# Altium footprint library WCAP-FTXX.PcbLib: 72 footprints (part 4 of 5)
Each footprint in its own frame and in the unit in brackets; x right, y up, seen from the top. Pads: shape width x height; smd on the part's side, far side on the other; paste and mask are expansions set on the pad; w line width, h text height; cw(c..) or ccw(c..) is an arc to the next point about the centre after c.
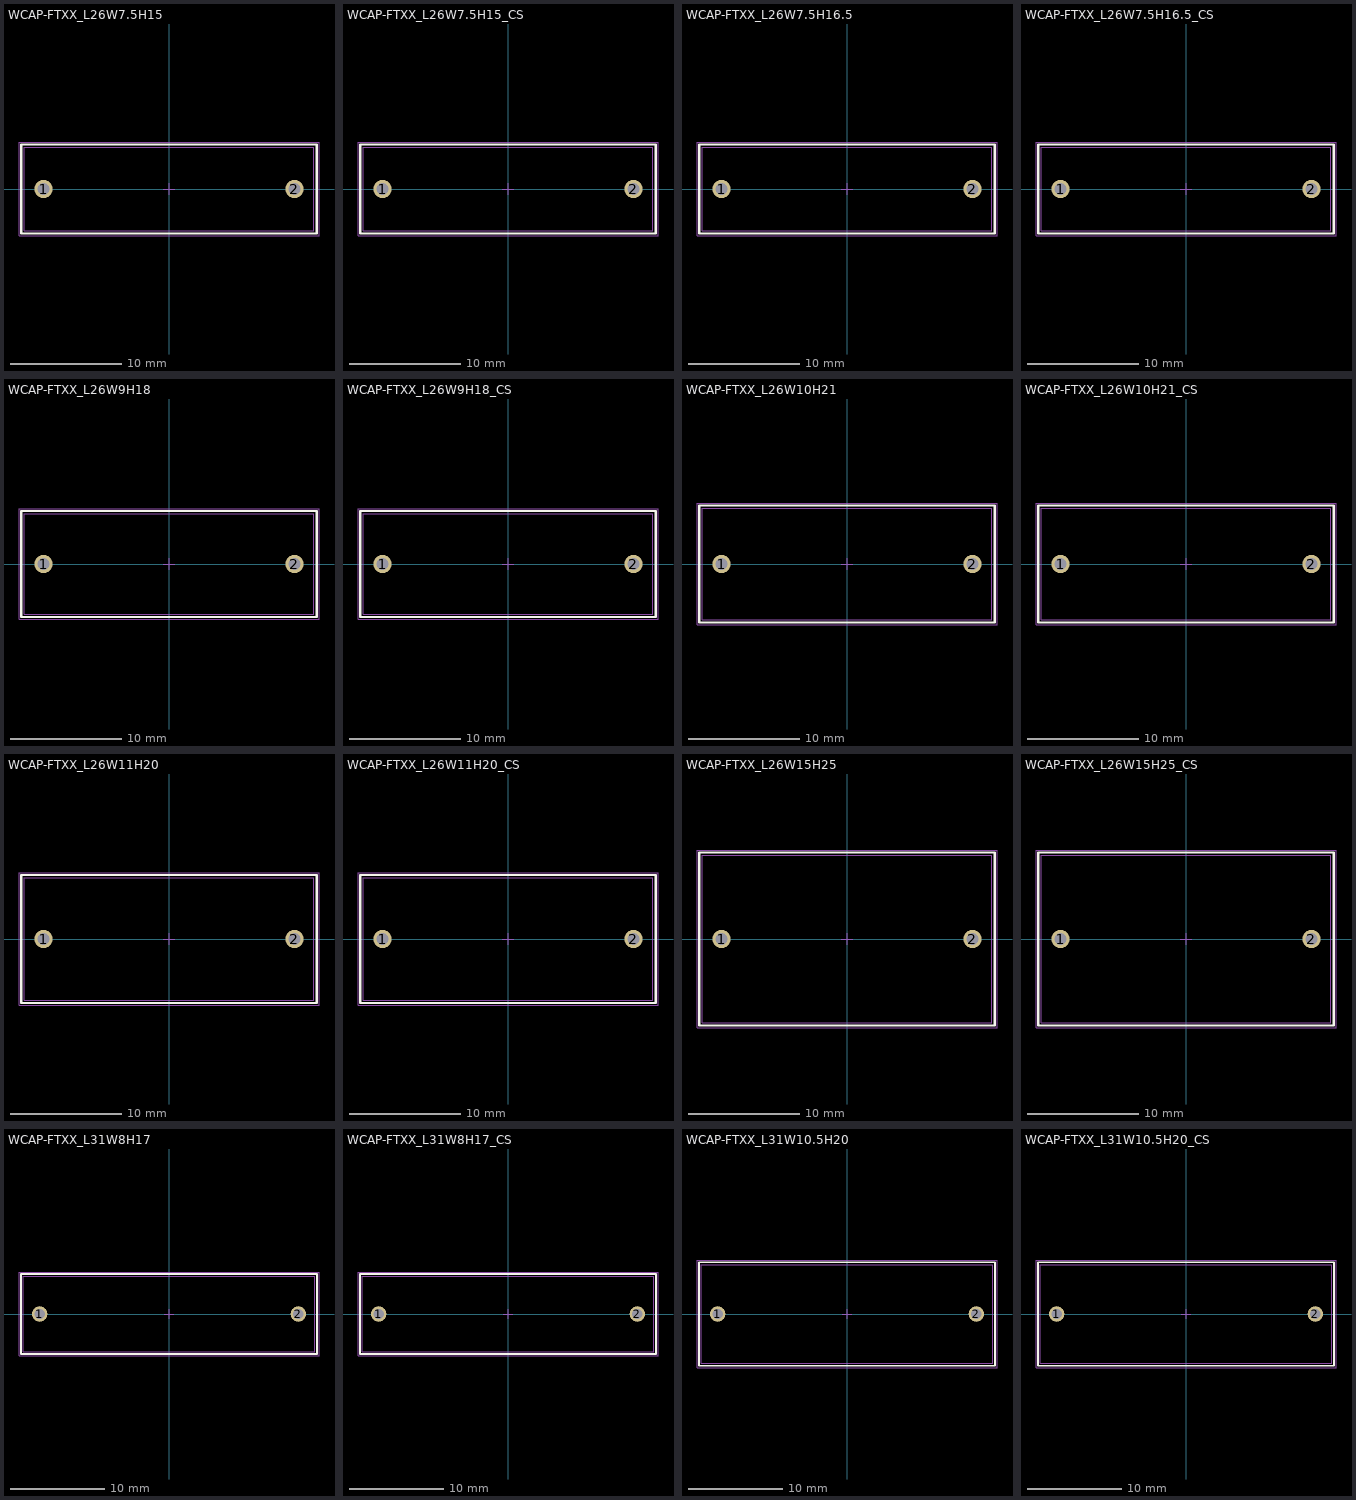
[diagram p3: the footprints below, top view; thin cyan lines are the x and y axes]

## WCAP-FTXX_L26W7.5H15 [mm] "Film Capacitors, 26x7.5x15mm"
height 15
pads (2):
  round 1.65 hole 1.1: 1(-11.25,0) 2(11.25,0)
Top Overlay:
  lines w0.2: -13.25,-4 13.25,-4 13.25,4 -13.25,4 -13.25,-4
Top Designator:
  text ".Designator" at -7.498,-0.5 h1.5
Top Component Outline:
  lines w0.1: -13,-3.75 -13,3.75 13,3.75 13,-3.75 -13,-3.75
Top Courtyard:
  lines w0.05: -13.45,-4.2 13.45,-4.2 13.45,4.2 -13.45,4.2 -13.45,-4.2
Top Component Center:
  lines w0.05: -0.5,0 0.5,0 ; 0,-0.5 0,0.5
3D body "22,5x26x15x7,5.stp": height 15.05, standoff -19.95, extent -13,-3.75 13,3.75

## WCAP-FTXX_L26W7.5H15_CS [mm] "Film Capacitors, 26x7.5x15mm"
height 15
pads (2):
  round 1.65 hole 1.1: 1(-11.25,0) 2(11.25,0)
Top Overlay:
  lines w0.2: -13.25,-4 -13.25,4 13.25,4 13.25,-4 -13.25,-4
Top Designator:
  text ".Designator" at -7.498,-0.5 h1.5
Top Component Outline:
  lines w0.1: -13,-3.75 13,-3.75 13,3.75 -13,3.75 -13,-3.75
Top Courtyard:
  lines w0.05: -13.45,-4.2 -13.45,4.2 13.45,4.2 13.45,-4.2 -13.45,-4.2
Top Component Center:
  lines w0.05: -0.5,0 0.5,0 ; 0,-0.5 0,0.5
3D body "22,5x26x15x7,5_CS.stp": height 15.05, standoff -3.95, extent -13,-3.75 13,3.75

## WCAP-FTXX_L26W7.5H16.5 [mm] "Film Capacitors, 26x7.5x16.5mm"
height 16.5
pads (2):
  round 1.65 hole 1.1: 1(-11.25,0) 2(11.25,0)
Top Overlay:
  lines w0.2: -13.25,-4 -13.25,4 13.25,4 13.25,-4 -13.25,-4
Top Designator:
  text ".Designator" at -7.498,-0.5 h1.5
Top Component Outline:
  lines w0.1: -13,-3.75 13,-3.75 13,3.75 -13,3.75 -13,-3.75
Top Courtyard:
  lines w0.05: -13.45,-4.2 -13.45,4.2 13.45,4.2 13.45,-4.2 -13.45,-4.2
Top Component Center:
  lines w0.05: -0.5,0 0.5,0 ; 0,-0.5 0,0.5
3D body "22,5x26x16,5x7,5.stp": height 16.55, standoff -19.95, extent -13,-3.75 13,3.75

## WCAP-FTXX_L26W7.5H16.5_CS [mm] "Film Capacitors, 26x7.5x16.5mm"
height 16.5
pads (2):
  round 1.65 hole 1.1: 1(-11.25,0) 2(11.25,0)
Top Overlay:
  lines w0.2: -13.25,-4 -13.25,4 13.25,4 13.25,-4 -13.25,-4
Top Designator:
  text ".Designator" at -7.498,-0.5 h1.5
Top Component Outline:
  lines w0.1: -13,-3.75 13,-3.75 13,3.75 -13,3.75 -13,-3.75
Top Courtyard:
  lines w0.05: -13.45,-4.2 -13.45,4.2 13.45,4.2 13.45,-4.2 -13.45,-4.2
Top Component Center:
  lines w0.05: -0.5,0 0.5,0 ; 0,-0.5 0,0.5
3D body "22,5x26x16,5x7,5_CS.stp": height 16.55, standoff -3.95, extent -13,-3.75 13,3.75

## WCAP-FTXX_L26W9H18 [mm] "Film Capacitors, 26x9x18mm"
height 18
pads (2):
  round 1.65 hole 1.1: 1(-11.25,0) 2(11.25,0)
Top Overlay:
  lines w0.2: -13.25,-4.75 -13.25,4.75 13.25,4.75 13.25,-4.75 -13.25,-4.75
Top Designator:
  text ".Designator" at -7.498,-0.5 h1.5
Top Component Outline:
  lines w0.1: -13,-4.5 13,-4.5 13,4.5 -13,4.5 -13,-4.5
Top Courtyard:
  lines w0.05: -13.45,-4.95 -13.45,4.95 13.45,4.95 13.45,-4.95 -13.45,-4.95
Top Component Center:
  lines w0.05: -0.5,0 0.5,0 ; 0,-0.5 0,0.5
3D body "22,5x26x18x9.stp": height 18.05, standoff -19.95, extent -13,-4.5 13,4.5

## WCAP-FTXX_L26W9H18_CS [mm] "Film Capacitors, 26x9x18mm"
height 18
pads (2):
  round 1.65 hole 1.1: 1(-11.25,0) 2(11.25,0)
Top Overlay:
  lines w0.2: -13.25,-4.75 13.25,-4.75 13.25,4.75 -13.25,4.75 -13.25,-4.75
Top Designator:
  text ".Designator" at -7.498,-0.5 h1.5
Top Component Outline:
  lines w0.1: -13,-4.5 -13,4.5 13,4.5 13,-4.5 -13,-4.5
Top Courtyard:
  lines w0.05: -13.45,-4.95 13.45,-4.95 13.45,4.95 -13.45,4.95 -13.45,-4.95
Top Component Center:
  lines w0.05: -0.5,0 0.5,0 ; 0,-0.5 0,0.5
3D body "22,5x26x18x9_CS.stp": height 18.05, standoff -3.95, extent -13,-4.5 13,4.5

## WCAP-FTXX_L26W10H21 [mm] "Film Capacitors, 26x10x21mm"
height 21
pads (2):
  round 1.65 hole 1.1: 1(-11.25,0) 2(11.25,0)
Top Overlay:
  lines w0.2: -13.25,-5.25 13.25,-5.25 13.25,5.25 -13.25,5.25 -13.25,-5.25
Top Designator:
  text ".Designator" at -7.498,-0.5 h1.5
Top Component Outline:
  lines w0.1: -13,-5 -13,5 13,5 13,-5 -13,-5
Top Courtyard:
  lines w0.05: -13.45,-5.45 13.45,-5.45 13.45,5.45 -13.45,5.45 -13.45,-5.45
Top Component Center:
  lines w0.05: -0.5,0 0.5,0 ; 0,-0.5 0,0.5
3D body "22,5x26x21x10.stp": height 21.05, standoff -19.95, extent -13,-5 13,5

## WCAP-FTXX_L26W10H21_CS [mm] "Film Capacitors, 26x10x21mm"
height 21
pads (2):
  round 1.65 hole 1.1: 1(-11.25,0) 2(11.25,0)
Top Overlay:
  lines w0.2: -13.25,-5.25 13.25,-5.25 13.25,5.25 -13.25,5.25 -13.25,-5.25
Top Designator:
  text ".Designator" at -7.498,-0.5 h1.5
Top Component Outline:
  lines w0.1: -13,-5 -13,5 13,5 13,-5 -13,-5
Top Courtyard:
  lines w0.05: -13.45,-5.45 13.45,-5.45 13.45,5.45 -13.45,5.45 -13.45,-5.45
Top Component Center:
  lines w0.05: -0.5,0 0.5,0 ; 0,-0.5 0,0.5
3D body "22,5x26x21x10_CS.stp": height 21.05, standoff -3.95, extent -13,-5 13,5

## WCAP-FTXX_L26W11H20 [mm] "Film Capacitors, 26x11x20mm"
height 20
pads (2):
  round 1.65 hole 1.1: 1(-11.25,0) 2(11.25,0)
Top Overlay:
  lines w0.2: -13.25,-5.75 -13.25,5.75 13.25,5.75 13.25,-5.75 -13.25,-5.75
Top Designator:
  text ".Designator" at -7.498,-0.5 h1.5
Top Component Outline:
  lines w0.1: -13,-5.5 13,-5.5 13,5.5 -13,5.5 -13,-5.5
Top Courtyard:
  lines w0.05: -13.45,-5.95 -13.45,5.95 13.45,5.95 13.45,-5.95 -13.45,-5.95
Top Component Center:
  lines w0.05: -0.5,0 0.5,0 ; 0,-0.5 0,0.5
3D body "22,5x26x20x11.stp": height 20.05, standoff -19.95, extent -13,-5.5 13,5.5

## WCAP-FTXX_L26W11H20_CS [mm] "Film Capacitors, 26x11x20mm"
height 20
pads (2):
  round 1.65 hole 1.1: 1(-11.25,0) 2(11.25,0)
Top Overlay:
  lines w0.2: -13.25,-5.75 13.25,-5.75 13.25,5.75 -13.25,5.75 -13.25,-5.75
Top Designator:
  text ".Designator" at -7.498,-0.5 h1.5
Top Component Outline:
  lines w0.1: -13,-5.5 -13,5.5 13,5.5 13,-5.5 -13,-5.5
Top Courtyard:
  lines w0.05: -13.45,-5.95 13.45,-5.95 13.45,5.95 -13.45,5.95 -13.45,-5.95
Top Component Center:
  lines w0.05: -0.5,0 0.5,0 ; 0,-0.5 0,0.5
3D body "22,5x26x20x11_CS.stp": height 20.05, standoff -3.95, extent -13,-5.5 13,5.5

## WCAP-FTXX_L26W15H25 [mm] "Film Capacitors, 26x15x25mm"
height 25
pads (2):
  round 1.65 hole 1.1: 1(-11.25,0) 2(11.25,0)
Top Overlay:
  lines w0.2: -13.25,-7.75 -13.25,7.75 13.25,7.75 13.25,-7.75 -13.25,-7.75
Top Designator:
  text ".Designator" at -7.498,-0.5 h1.5
Top Component Outline:
  lines w0.1: -13,-7.5 13,-7.5 13,7.5 -13,7.5 -13,-7.5
Top Courtyard:
  lines w0.05: -13.45,-7.95 -13.45,7.95 13.45,7.95 13.45,-7.95 -13.45,-7.95
Top Component Center:
  lines w0.05: -0.5,0 0.5,0 ; 0,-0.5 0,0.5
3D body "22,5x26x25x15.stp": height 25.05, standoff -19.95, extent -13,-7.5 13,7.5

## WCAP-FTXX_L26W15H25_CS [mm] "Film Capacitors, 26x15x25mm"
height 25
pads (2):
  round 1.65 hole 1.1: 1(-11.25,0) 2(11.25,0)
Top Overlay:
  lines w0.2: -13.25,-7.75 -13.25,7.75 13.25,7.75 13.25,-7.75 -13.25,-7.75
Top Designator:
  text ".Designator" at -7.498,-0.5 h1.5
Top Component Outline:
  lines w0.1: -13,-7.5 13,-7.5 13,7.5 -13,7.5 -13,-7.5
Top Courtyard:
  lines w0.05: -13.45,-7.95 -13.45,7.95 13.45,7.95 13.45,-7.95 -13.45,-7.95
Top Component Center:
  lines w0.05: -0.5,0 0.5,0 ; 0,-0.5 0,0.5
3D body "22,5x26x25x15_CS.stp": height 25.05, standoff -3.95, extent -13,-7.5 13,7.5

## WCAP-FTXX_L31W8H17 [mm] "Film Capacitors, 31x8x17mm"
height 17
pads (2):
  round 1.65 hole 1.1: 1(-13.75,0) 2(13.75,0)
Top Overlay:
  lines w0.2: -15.75,-4.25 -15.75,4.25 15.75,4.25 15.75,-4.25 -15.75,-4.25
Top Designator:
  text ".Designator" at -7.498,-0.5 h1.5
Top Component Outline:
  lines w0.1: -15.5,-4 15.5,-4 15.5,4 -15.5,4 -15.5,-4
Top Courtyard:
  lines w0.05: -15.95,-4.45 -15.95,4.45 15.95,4.45 15.95,-4.45 -15.95,-4.45
Top Component Center:
  lines w0.05: -0.5,0 0.5,0 ; 0,-0.5 0,0.5
3D body "27,5x31x17x8.stp": height 17.05, standoff -19.95, extent -15.5,-4 15.5,4

## WCAP-FTXX_L31W8H17_CS [mm] "Film Capacitors, 31x8x17mm"
height 17
pads (2):
  round 1.65 hole 1.1: 1(-13.75,0) 2(13.75,0)
Top Overlay:
  lines w0.2: -15.75,-4.25 15.75,-4.25 15.75,4.25 -15.75,4.25 -15.75,-4.25
Top Designator:
  text ".Designator" at -7.498,-0.5 h1.5
Top Component Outline:
  lines w0.1: -15.5,-4 -15.5,4 15.5,4 15.5,-4 -15.5,-4
Top Courtyard:
  lines w0.05: -15.95,-4.45 15.95,-4.45 15.95,4.45 -15.95,4.45 -15.95,-4.45
Top Component Center:
  lines w0.05: -0.5,0 0.5,0 ; 0,-0.5 0,0.5
3D body "STP_download_WE-FTXX_890334027009CS (rev1).stp": height 17.05, standoff -3.95, extent -15.5,-4 15.5,4

## WCAP-FTXX_L31W10.5H20 [mm] "Film Capacitors, 31x10.5x20mm"
height 20
pads (2):
  round 1.65 hole 1.1: 1(-13.75,0) 2(13.75,0)
Top Overlay:
  lines w0.2: -15.75,-5.5 15.75,-5.5 15.75,5.5 -15.75,5.5 -15.75,-5.5
Top Designator:
  text ".Designator" at -7.498,-0.5 h1.5
Top Component Outline:
  lines w0.1: -15.5,-5.25 -15.5,5.25 15.5,5.25 15.5,-5.25 -15.5,-5.25
Top Courtyard:
  lines w0.05: -15.95,-5.7 15.95,-5.7 15.95,5.7 -15.95,5.7 -15.95,-5.7
Top Component Center:
  lines w0.05: -0.5,0 0.5,0 ; 0,-0.5 0,0.5
3D body "27,5x31x20x10,5.stp": height 20.05, standoff -19.95, extent -15.5,-5.25 15.5,5.25

## WCAP-FTXX_L31W10.5H20_CS [mm] "Film Capacitors, 31x10.5x20mm"
height 20
pads (2):
  round 1.65 hole 1.1: 1(-13.75,0) 2(13.75,0)
Top Overlay:
  lines w0.2: -15.75,-5.5 -15.75,5.5 15.75,5.5 15.75,-5.5 -15.75,-5.5
Top Designator:
  text ".Designator" at -7.498,-0.5 h1.5
Top Component Outline:
  lines w0.1: -15.5,-5.25 15.5,-5.25 15.5,5.25 -15.5,5.25 -15.5,-5.25
Top Courtyard:
  lines w0.05: -15.95,-5.7 -15.95,5.7 15.95,5.7 15.95,-5.7 -15.95,-5.7
Top Component Center:
  lines w0.05: -0.5,0 0.5,0 ; 0,-0.5 0,0.5
3D body "27,5x31x20x10,5_CS.stp": height 20.05, standoff -3.95, extent -15.5,-5.25 15.5,5.25